# Altium integrated library STM32H750VB CoreBoard AltiumDesigner.IntLib: 1 symbol
Pins are listed as number, name and electrical type; pins without a type are passive.

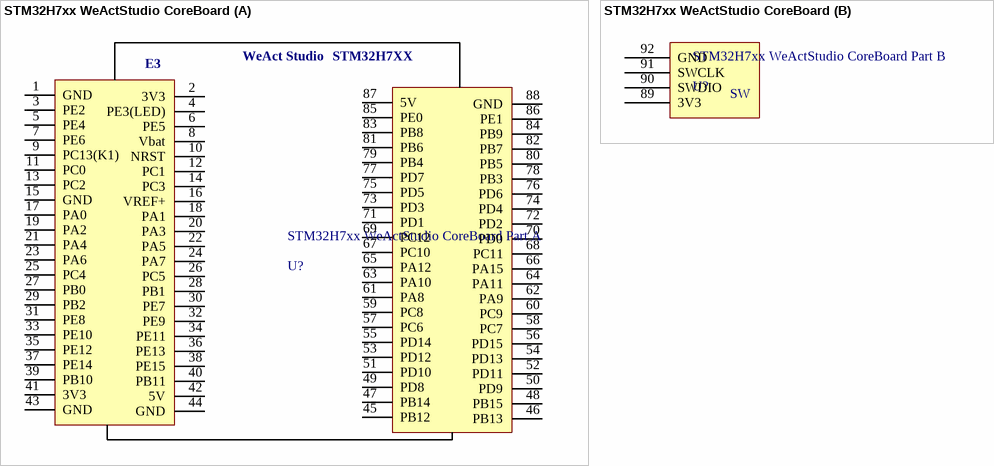
[diagram p0: symbol STM32H7xx WeActStudio CoreBoard]

## STM32H7xx WeActStudio CoreBoard
designator STM32H7xx WeActStudio CoreBoard Part, comment  U?
footprint STM32H7xx Core Board (STM32H7xx Core Board By WeActStudio)
part A pins: 1 GND, 2 3V3, 3 PE2, 4 PE3(LED), 5 PE4, 6 PE5, 7 PE6, 8 Vbat, 9 PC13(K1), 10 NRST, 11 PC0, 12 PC1, 13 PC2, 14 PC3, 15 GND, 16 VREF+, 17 PA0, 18 PA1, 19 PA2, 20 PA3, 21 PA4, 22 PA5, 23 PA6, 24 PA7, 25 PC4, 26 PC5, 27 PB0, 28 PB1, 29 PB2, 30 PE7, 31 PE8, 32 PE9, 33 PE10, 34 PE11, 35 PE12, 36 PE13, 37 PE14, 38 PE15, 39 PB10, 40 PB11, 41 3V3, 42 5V, 43 GND, 44 GND, 45 PB12, 46 PB13, 47 PB14, 48 PB15, 49 PD8, 50 PD9, 51 PD10, 52 PD11, 53 PD12, 54 PD13, 55 PD14, 56 PD15, 57 PC6, 58 PC7, 59 PC8, 60 PC9, 61 PA8, 62 PA9, 63 PA10, 64 PA11, 65 PA12, 66 PA15, 67 PC10, 68 PC11, 69 PC12, 70 PD0, 71 PD1, 72 PD2, 73 PD3, 74 PD4, 75 PD5, 76 PD6, 77 PD7, 78 PB3, 79 PB4, 80 PB5, 81 PB6, 82 PB7, 83 PB8, 84 PB9, 85 PE0, 86 PE1, 87 5V, 88 GND
part B pins: 89 3V3, 90 SWDIO, 91 SWCLK, 92 GND
part A text: WeAct Studio; STM32H7XX; E3
part B text: SW